# Altium schematic symbol library Passive Components.SchLib: 3 symbols
Pins are listed as number, name and electrical type; pins without a type are passive.

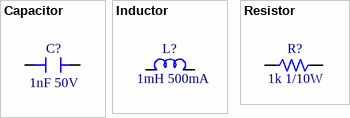
[diagram p0: symbols Capacitor to Resistor]

## Capacitor
designator C?  value 1nF 50V  (hidden comment: *)
Manufacturer: *; Manufacturer Part Number: *
footprint 0603 IPC-A
footprint 0603 IPC-B
footprint 0603 IPC-C
footprint 0805 IPC-A
footprint 0805 IPC-B
footprint 0805 IPC-C
pins: 1, 2

## Inductor
designator L?  value 1mH 500mA  (hidden comment: *)
Manufacturer: *
footprint 0603 IPC-A
footprint 0603 IPC-B
footprint 0603 IPC-C
footprint 0805 IPC-A
footprint 0805 IPC-B
footprint 0805 IPC-C
pins: 1, 2

## Resistor
designator R?  value 1k 1/10W
Package Reference: *; Manufacturer: *
footprint 0603 IPC-A
footprint 0603 IPC-B
footprint 0603 IPC-C
footprint 0805 IPC-A
footprint 0805 IPC-B
footprint 0805 IPC-C
pins: 1, 2